# Altium footprint library IDTILab.PcbLib: 105 footprints (part 2 of 7)
Each footprint in its own frame and in the unit in brackets; x right, y up, seen from the top. Pads: shape width x height; smd on the part's side, far side on the other; paste and mask are expansions set on the pad; w line width, h text height; cw(c..) or ccw(c..) is an arc to the next point about the centre after c.
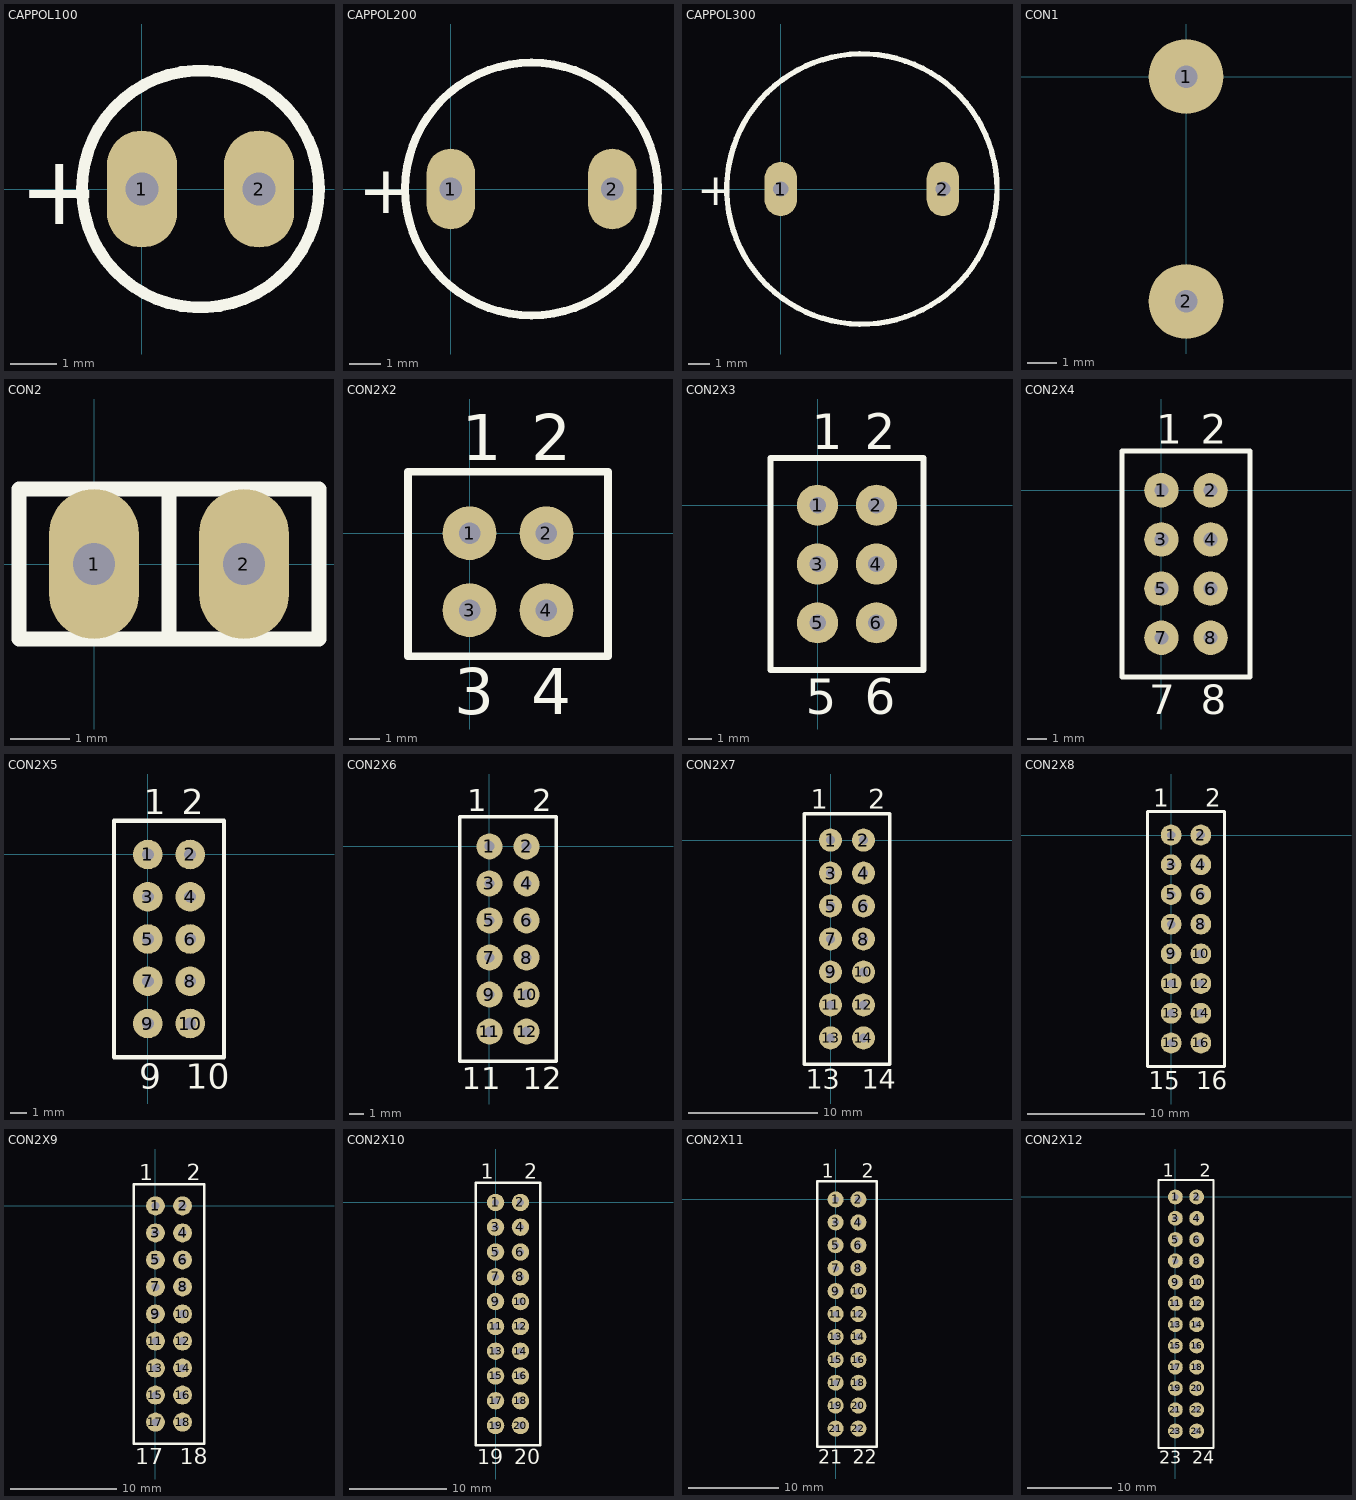
[diagram p1: the footprints below, top view; thin cyan lines are the x and y axes]

## CAPPOL100 [mil]
pads (2):
  oval 60x100 hole 28: 1(0,0) 2(100,0)
Top Overlay:
  circle w10: c50,0 r101.24
  text "+" at -105,-30 h60

## CAPPOL200 [mil]
pads (2):
  oval 60x100 hole 28: 1(0,0) 2(200,0)
Top Overlay:
  circle w10: c100,0 r156.6
  text "+" at -115,-30 h60

## CAPPOL300 [mil]
pads (2):
  oval 60x100 hole 28: 1(0,0) 2(300,0)
Top Overlay:
  circle w10: c150,0 r250
  text "+" at -155,-30 h60

## CON1 [mil]
pads (2):
  round 100 hole 30: 1(0,0) 2(0,-300)

## CON2 [mil]
pads (2):
  oval 60x100 hole 28: 1(0,0) 2(100,0)
Top Overlay:
  lines w10: 50,-50 50,50 ; -50,-50 -50,0 -50,50 150,50 150,-50 -50,-50

## CON2X2 [mil]
pads (4):
  round 70 hole 28: 1(0,0) 2(100,0) 3(0,-100) 4(100,-100)
Top Overlay:
  lines w10: -80,-160 160,-160 180,-160 180,80 -80,80 -80,-160
  text "4" at 80,-235 h60
  text "3" at -20,-235 h60
  text "2" at 80,95 h60
  text "1" at -10,95 h60

## CON2X3 [mil]
pads (6):
  round 70 hole 28: 1(0,0) 2(100,0) 3(0,-100) 4(100,-100) 5(0,-200) 6(100,-200)
Top Overlay:
  lines w10: -80,-280 180,-280 180,80 -80,80 -80,-280
  text "6" at 80,-355 h60
  text "5" at -20,-355 h60
  text "1" at -10,95 h60
  text "2" at 80,95 h60

## CON2X4 [mil]
pads (8):
  round 70 hole 28: 1(0,0) 2(100,0) 3(0,-100) 4(100,-100) 5(0,-200) 6(100,-200) 7(0,-300) 8(100,-300)
Top Overlay:
  lines w10: -80,-380 -80,80 180,80 180,-380 -80,-380
  text "1" at -10,95 h60
  text "2" at 80,95 h60
  text "7" at -25,-455 h60
  text "8" at 80,-455 h60

## CON2X5 [mil]
pads (10):
  round 70 hole 28: 1(0,0) 2(100,0) 3(0,-100) 4(100,-100) 5(0,-200) 6(100,-200) 7(0,-300) 8(100,-300) 9(0,-400) 10(100,-400)
Top Overlay:
  lines w10: -80,-480 180,-480 180,80 -80,80 -80,-480
  text "10" at 90,-555 h60
  text "9" at -20,-555 h60
  text "2" at 80,95 h60
  text "1" at -10,95 h60

## CON2X6 [mil]
pads (12):
  round 70 hole 28: 1(0,0) 2(100,0) 3(0,-100) 4(100,-100) 5(0,-200) 6(100,-200) 7(0,-300) 8(100,-300) 9(0,-400) 10(100,-400) 11(0,-500) 12(100,-500)
Top Overlay:
  lines w10: -80,-580 180,-580 180,80 -80,80 -80,-580
  text "12" at 90,-655 h60
  text "11" at -75,-655 h60
  text "1" at -60,95 h60
  text "2" at 115,95 h60

## CON2X7 [mil]
pads (14):
  round 70 hole 28: 1(0,0) 2(100,0) 3(0,-100) 4(100,-100) 5(0,-200) 6(100,-200) 7(0,-300) 8(100,-300) 9(0,-400) 10(100,-400) 11(0,-500) 12(100,-500) 13(0,-600) 14(100,-600)
Top Overlay:
  lines w10: -80,-680 180,-680 180,80 -80,80 -80,-680
  text "14" at 95,-755 h60
  text "13" at -75,-755 h60
  text "2" at 115,95 h60
  text "1" at -60,95 h60

## CON2X8 [mil]
pads (16):
  round 70 hole 28: 1(0,0) 2(100,0) 3(0,-100) 4(100,-100) 5(0,-200) 6(100,-200) 7(0,-300) 8(100,-300) 9(0,-400) 10(100,-400) 11(0,-500) 12(100,-500) 13(0,-600) 14(100,-600) 15(0,-700) 16(100,-700)
Top Overlay:
  lines w10: -80,-780 180,-780 180,80 -80,80 -80,-780
  text "16" at 85,-855 h60
  text "15" at -75,-855 h60
  text "1" at -60,95 h60
  text "2" at 115,95 h60

## CON2X9 [mil]
pads (18):
  round 70 hole 28: 1(0,0) 2(100,0) 3(0,-100) 4(100,-100) 5(0,-200) 6(100,-200) 7(0,-300) 8(100,-300) 9(0,-400) 10(100,-400) 11(0,-500) 12(100,-500) 13(0,-600) 14(100,-600) 15(0,-700) 16(100,-700) 17(0,-800) 18(100,-800)
Top Overlay:
  lines w10: -80,-880 -80,80 180,80 180,-880 -80,-880
  text "1" at -60,95 h60
  text "2" at 115,95 h60
  text "17" at -75,-955 h60
  text "18" at 90,-955 h60

## CON2X10 [mil]
pads (20):
  round 70 hole 28: 1(0,0) 2(100,0) 3(0,-100) 4(100,-100) 5(0,-200) 6(100,-200) 7(0,-300) 8(100,-300) 9(0,-400) 10(100,-400) 11(0,-500) 12(100,-500) 13(0,-600) 14(100,-600) 15(0,-700) 16(100,-700) 17(0,-800) 18(100,-800) 19(0,-900) 20(100,-900)
Top Overlay:
  lines w10: -80,-980 -80,80 180,80 180,-980 -80,-980
  text "1" at -60,95 h60
  text "2" at 115,95 h60
  text "19" at -75,-1055 h60
  text "20" at 75,-1055 h60

## CON2X11 [mil]
pads (22):
  round 70 hole 28: 1(0,0) 2(100,0) 3(0,-100) 4(100,-100) 5(0,-200) 6(100,-200) 7(0,-300) 8(100,-300) 9(0,-400) 10(100,-400) 11(0,-500) 12(100,-500) 13(0,-600) 14(100,-600) 15(0,-700) 16(100,-700) 17(0,-800) 18(100,-800) 19(0,-900) 20(100,-900) 21(0,-1000) 22(100,-1000)
Top Overlay:
  lines w10: -80,-1080 180,-1080 180,80 -80,80 -80,-1080
  text "22" at 75,-1155 h60
  text "21" at -75,-1155 h60
  text "2" at 115,95 h60
  text "1" at -60,95 h60

## CON2X12 [mil]
pads (24):
  round 70 hole 28: 1(0,0) 2(100,0) 3(0,-100) 4(100,-100) 5(0,-200) 6(100,-200) 7(0,-300) 8(100,-300) 9(0,-400) 10(100,-400) 11(0,-500) 12(100,-500) 13(0,-600) 14(100,-600) 15(0,-700) 16(100,-700) 17(0,-800) 18(100,-800) 19(0,-900) 20(100,-900) 21(0,-1000) 22(100,-1000) 23(0,-1100) 24(100,-1100)
Top Overlay:
  lines w10: -80,-1180 180,-1180 180,80 -80,80 -80,-1180
  text "24" at 80,-1255 h60
  text "23" at -75,-1255 h60
  text "1" at -60,95 h60
  text "2" at 115,95 h60